# EAGLE library part PIC32MZ-EF-144 (library BW-Active)
32-bit 200MHz microcontroller, 144-pin
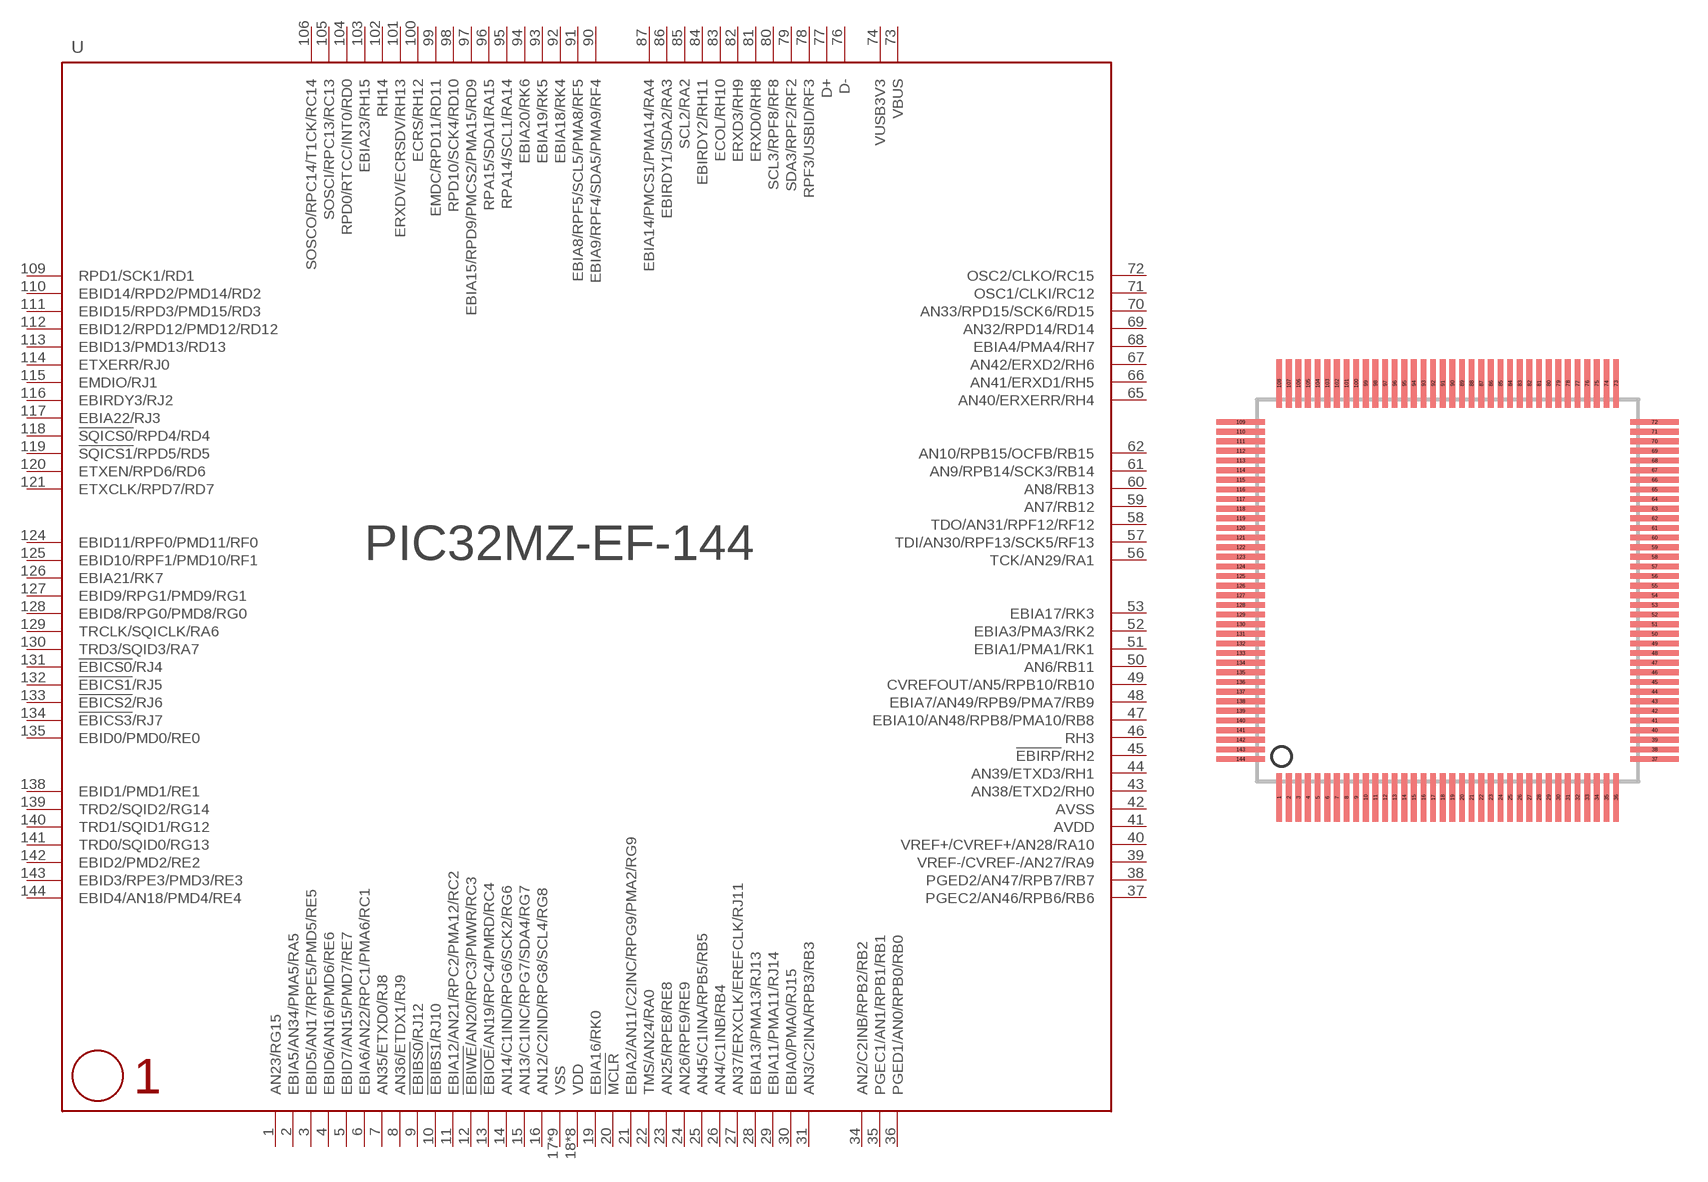
[diagram p15: symbol with the pads of LQFP144-20X20; footprint LQFP144-20X20]

Designator prefix U

## PIC32MZ-EF-144  [LQFP144-20X20]
1  AN23/RG15
2  EBIA5/AN34/PMA5/RA5
3  EBID5/AN17/RPE5/PMD5/RE5
4  EBID6/AN16/PMD6/RE6
5  EBID7/AN15/PMD7/RE7
6  EBIA6/AN22/RPC1/PMA6/RC1
7  AN35/ETXD0/RJ8
8  AN36/ETDX1/RJ9
9  !EBIBS0!/RJ12
10  !EBIBS1!/RJ10
11  EBIA12/AN21/RPC2/PMA12/RC2
12  !EBIWE!/AN20/RPC3/PMWR/RC3
13  !EBIOE!/AN19/RPC4/PMRD/RC4
14  AN14/C1IND/RPG6/SCK2/RG6
15  AN13/C1INC/RPG7/SDA4/RG7
16  AN12/C2IND/RPG8/SCL4/RG8
17  VSS
18  VDD
19  EBIA16/RK0
20  !MCLR
21  EBIA2/AN11/C2INC/RPG9/PMA2/RG9
22  TMS/AN24/RA0
23  AN25/RPE8/RE8
24  AN26/RPE9/RE9
25  AN45/C1INA/RPB5/RB5
26  AN4/C1INB/RB4
27  AN37/ERXCLK/EREFCLK/RJ11
28  EBIA13/PMA13/RJ13
29  EBIA11/PMA11/RJ14
30  EBIA0/PMA0/RJ15
31  AN3/C2INA/RPB3/RB3
32  VSS
33  VDD
34  AN2/C2INB/RPB2/RB2
35  PGEC1/AN1/RPB1/RB1
36  PGED1/AN0/RPB0/RB0
37  PGEC2/AN46/RPB6/RB6
38  PGED2/AN47/RPB7/RB7
39  VREF-/CVREF-/AN27/RA9
40  VREF+/CVREF+/AN28/RA10
41  AVDD
42  AVSS
43  AN38/ETXD2/RH0
44  AN39/ETXD3/RH1
45  !EBIRP!/RH2
46  RH3
47  EBIA10/AN48/RPB8/PMA10/RB8
48  EBIA7/AN49/RPB9/PMA7/RB9
49  CVREFOUT/AN5/RPB10/RB10
50  AN6/RB11
51  EBIA1/PMA1/RK1
52  EBIA3/PMA3/RK2
53  EBIA17/RK3
54  VSS
55  VDD
56  TCK/AN29/RA1
57  TDI/AN30/RPF13/SCK5/RF13
58  TDO/AN31/RPF12/RF12
59  AN7/RB12
60  AN8/RB13
61  AN9/RPB14/SCK3/RB14
62  AN10/RPB15/OCFB/RB15
63  VSS
64  VDD
65  AN40/ERXERR/RH4
66  AN41/ERXD1/RH5
67  AN42/ERXD2/RH6
68  EBIA4/PMA4/RH7
69  AN32/RPD14/RD14
70  AN33/RPD15/SCK6/RD15
71  OSC1/CLKI/RC12
72  OSC2/CLKO/RC15
73  VBUS
74  VUSB3V3  pwr
75  VSS
76  D-
77  D+
78  RPF3/USBID/RF3
79  SDA3/RPF2/RF2
80  SCL3/RPF8/RF8
81  ERXD0/RH8
82  ERXD3/RH9
83  ECOL/RH10
84  EBIRDY2/RH11
85  SCL2/RA2
86  EBIRDY1/SDA2/RA3
87  EBIA14/PMCS1/PMA14/RA4
88  VDD
89  VSS
90  EBIA9/RPF4/SDA5/PMA9/RF4
91  EBIA8/RPF5/SCL5/PMA8/RF5
92  EBIA18/RK4
93  EBIA19/RK5
94  EBIA20/RK6
95  RPA14/SCL1/RA14
96  RPA15/SDA1/RA15
97  EBIA15/RPD9/PMCS2/PMA15/RD9
98  RPD10/SCK4/RD10
99  EMDC/RPD11/RD11
100  ECRS/RH12
101  ERXDV/ECRSDV/RH13
102  RH14
103  EBIA23/RH15
104  RPD0/RTCC/INT0/RD0
105  SOSCI/RPC13/RC13
106  SOSCO/RPC14/T1CK/RC14
107  VDD
108  VSS
109  RPD1/SCK1/RD1
110  EBID14/RPD2/PMD14/RD2
111  EBID15/RPD3/PMD15/RD3
112  EBID12/RPD12/PMD12/RD12
113  EBID13/PMD13/RD13
114  ETXERR/RJ0
115  EMDIO/RJ1
116  EBIRDY3/RJ2
117  EBIA22/RJ3
118  !SQICS0!/RPD4/RD4
119  !SQICS1!/RPD5/RD5
120  ETXEN/RPD6/RD6
121  ETXCLK/RPD7/RD7
122  VDD
123  VSS
124  EBID11/RPF0/PMD11/RF0
125  EBID10/RPF1/PMD10/RF1
126  EBIA21/RK7
127  EBID9/RPG1/PMD9/RG1
128  EBID8/RPG0/PMD8/RG0
129  TRCLK/SQICLK/RA6
130  TRD3/SQID3/RA7
131  !EBICS0!/RJ4
132  !EBICS1!/RJ5
133  !EBICS2!/RJ6
134  !EBICS3!/RJ7
135  EBID0/PMD0/RE0
136  VSS
137  VDD
138  EBID1/PMD1/RE1
139  TRD2/SQID2/RG14
140  TRD1/SQID1/RG12
141  TRD0/SQID0/RG13
142  EBID2/PMD2/RE2
143  EBID3/RPE3/PMD3/RE3
144  EBID4/AN18/PMD4/RE4

## Footprint LQFP144-20X20 (pad centres in mm)
LQFP144 low profile quad flat pack, square
smd 0.3 x 2.5: 1 -8.75,-10.75; 2 -8.25,-10.75; 3 -7.75,-10.75; 4 -7.25,-10.75; 5 -6.75,-10.75; 6 -6.25,-10.75; 7 -5.75,-10.75; 8 -5.25,-10.75; 9 -4.75,-10.75; 10 -4.25,-10.75; 11 -3.75,-10.75; 12 -3.25,-10.75; 13 -2.75,-10.75; 14 -2.25,-10.75; 15 -1.75,-10.75; 16 -1.25,-10.75; 17 -0.75,-10.75; 18 -0.25,-10.75; 19 0.25,-10.75; 20 0.75,-10.75; 21 1.25,-10.75; 22 1.75,-10.75; 23 2.25,-10.75; 24 2.75,-10.75; 25 3.25,-10.75; 26 3.75,-10.75; 27 4.25,-10.75; 28 4.75,-10.75; 29 5.25,-10.75; 30 5.75,-10.75; 31 6.25,-10.75; 32 6.75,-10.75; 33 7.25,-10.75; 34 7.75,-10.75; 35 8.25,-10.75; 36 8.75,-10.75; 73 8.75,10.75; 74 8.25,10.75; 75 7.75,10.75; 76 7.25,10.75; 77 6.75,10.75; 78 6.25,10.75; 79 5.75,10.75; 80 5.25,10.75; 81 4.75,10.75; 82 4.25,10.75; 83 3.75,10.75; 84 3.25,10.75; 85 2.75,10.75; 86 2.25,10.75; 87 1.75,10.75; 88 1.25,10.75; 89 0.75,10.75; 90 0.25,10.75; 91 -0.25,10.75; 92 -0.75,10.75; 93 -1.25,10.75; 94 -1.75,10.75; 95 -2.25,10.75; 96 -2.75,10.75; 97 -3.25,10.75; 98 -3.75,10.75; 99 -4.25,10.75; 100 -4.75,10.75; 101 -5.25,10.75; 102 -5.75,10.75; 103 -6.25,10.75; 104 -6.75,10.75; 105 -7.25,10.75; 106 -7.75,10.75; 107 -8.25,10.75; 108 -8.75,10.75
smd 2.5 x 0.3: 37 10.75,-8.75; 38 10.75,-8.25; 39 10.75,-7.75; 40 10.75,-7.25; 41 10.75,-6.75; 42 10.75,-6.25; 43 10.75,-5.75; 44 10.75,-5.25; 45 10.75,-4.75; 46 10.75,-4.25; 47 10.75,-3.75; 48 10.75,-3.25; 49 10.75,-2.75; 50 10.75,-2.25; 51 10.75,-1.75; 52 10.75,-1.25; 53 10.75,-0.75; 54 10.75,-0.25; 55 10.75,0.25; 56 10.75,0.75; 57 10.75,1.25; 58 10.75,1.75; 59 10.75,2.25; 60 10.75,2.75; 61 10.75,3.25; 62 10.75,3.75; 63 10.75,4.25; 64 10.75,4.75; 65 10.75,5.25; 66 10.75,5.75; 67 10.75,6.25; 68 10.75,6.75; 69 10.75,7.25; 70 10.75,7.75; 71 10.75,8.25; 72 10.75,8.75; 109 -10.75,8.75; 110 -10.75,8.25; 111 -10.75,7.75; 112 -10.75,7.25; 113 -10.75,6.75; 114 -10.75,6.25; 115 -10.75,5.75; 116 -10.75,5.25; 117 -10.75,4.75; 118 -10.75,4.25; 119 -10.75,3.75; 120 -10.75,3.25; 121 -10.75,2.75; 122 -10.75,2.25; 123 -10.75,1.75; 124 -10.75,1.25; 125 -10.75,0.75; 126 -10.75,0.25; 127 -10.75,-0.25; 128 -10.75,-0.75; 129 -10.75,-1.25; 130 -10.75,-1.75; 131 -10.75,-2.25; 132 -10.75,-2.75; 133 -10.75,-3.25; 134 -10.75,-3.75; 135 -10.75,-4.25; 136 -10.75,-4.75; 137 -10.75,-5.25; 138 -10.75,-5.75; 139 -10.75,-6.25; 140 -10.75,-6.75; 141 -10.75,-7.25; 142 -10.75,-7.75; 143 -10.75,-8.25; 144 -10.75,-8.75